# EAGLE library part TLW-112-06-G-S (library SAMTEC-Txx_By_element14_Batch_1)
CONNECTOR HEADER, 12 WAY, 1ROW
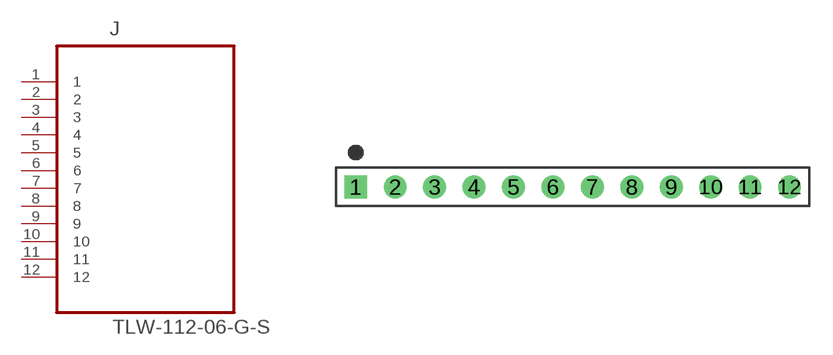
[diagram p193: symbol with the pads of SAMTEC_TLW-112-06-G-S; footprint SAMTEC_TLW-112-06-G-S]

Designator prefix J

## TLW-112-06-G-S (MPN: TLW-112-06-G-S; OC_FARNELL: -; OC_NEWARK: 12P0456; PACKAGE: CONN HEADER 12 POS .100 inch; SUPPLIER: SAMTEC)  [SAMTEC_TLW-112-06-G-S]
1  1  pas
2  2  pas
3  3  pas
4  4  pas
5  5  pas
6  6  pas
7  7  pas
8  8  pas
9  9  pas
10  10  pas
11  11  pas
12  12  pas

## Footprint SAMTEC_TLW-112-06-G-S (pad centres in mm)
drill 0.965 square: 1 -27.94,0
drill 0.965: 2 -25.4,0; 3 -22.86,0; 4 -20.32,0; 5 -17.78,0; 6 -15.24,0; 7 -12.7,0; 8 -10.16,0; 9 -7.62,0; 10 -5.08,0; 11 -2.54,0; 12 0,0